# Altium schematic symbol library GPSR_v2.SchLib: 41 symbols
Pins are listed as number, name and electrical type; pins without a type are passive.

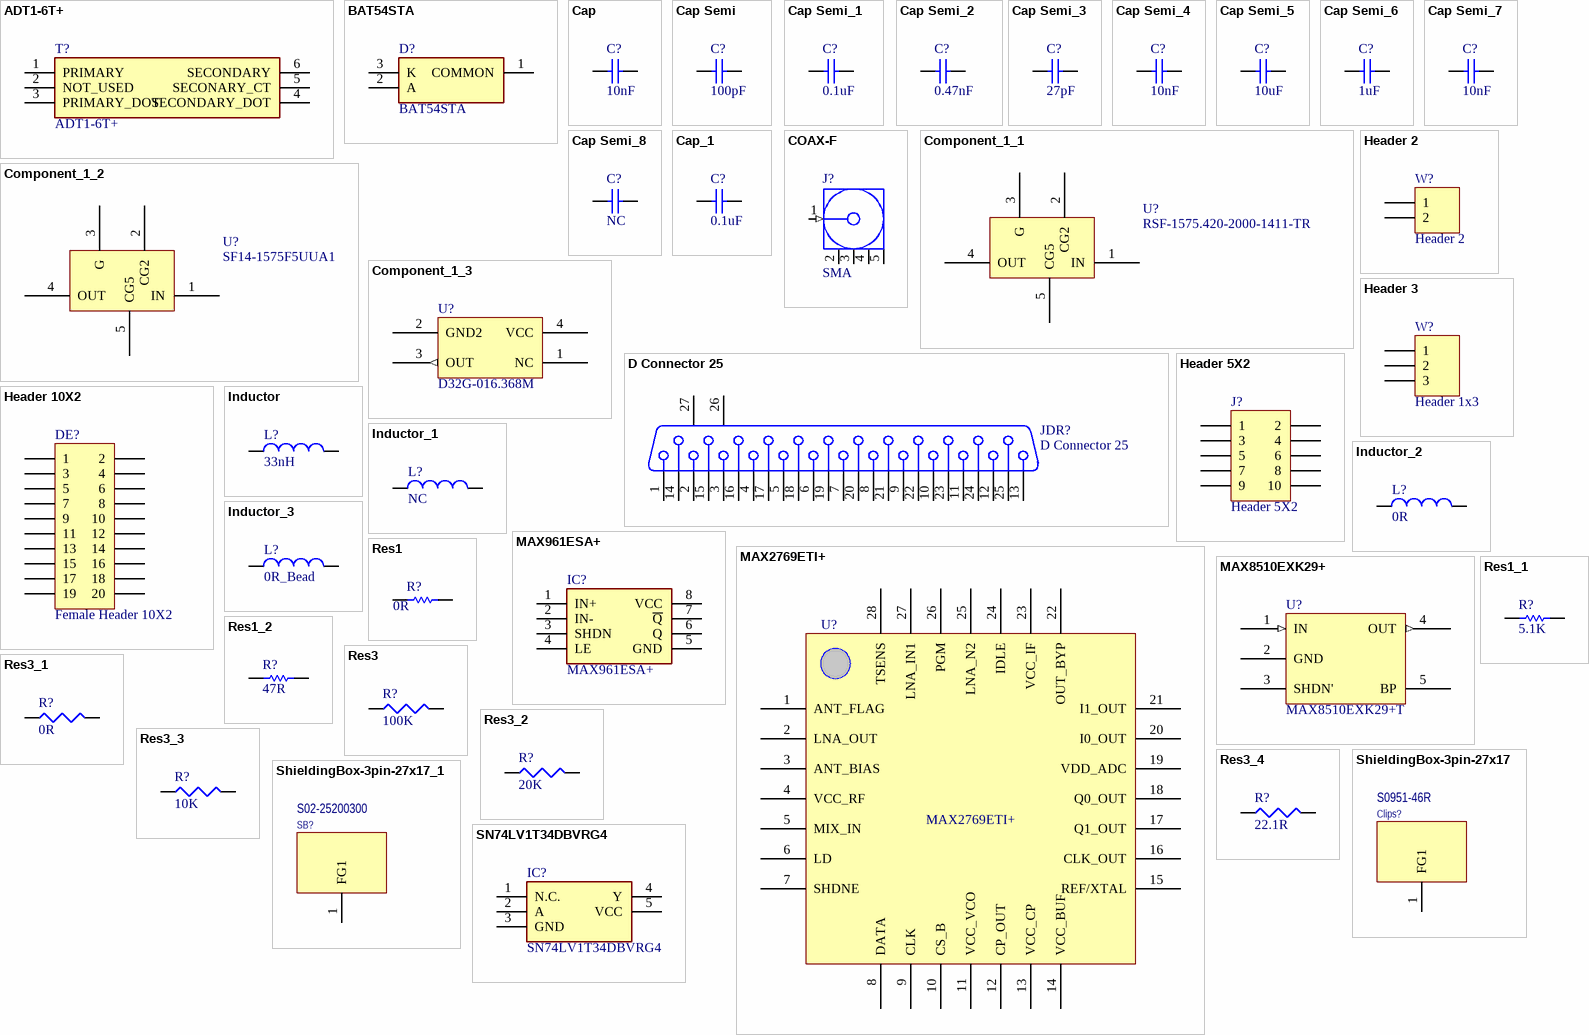
[diagram p0: symbols ADT1-6T+ to SN74LV1T34DBVRG4]

## ADT1-6T+
designator T?
Transformer; Manufacturer_Name: Mini-Circuits; Datasheet Link: https://www.minicircuits.com/WebStore/dashboard.html?model=ADT1-6T%2B; Manufacturer_Part_Number: ADT1-6T+; Mouser Part Number: 139-ADT1-6T; Mouser Price/Stock: https://www.mouser.co.uk/ProductDetail/Mini-Circuits/ADT1-6T%2b?qs=xZ%2FP%252Ba9zWqaFnE78654XUA%3D%3D
footprint ADT16T
pins: 1 PRIMARY, 2 NOT_USED, 3 PRIMARY_DOT, 4 SECONDARY_DOT, 5 SECONARY_CT, 6 SECONDARY

## BAT54STA
designator D?
Schottky Diode; Manufacturer_Name: Diodes Inc.; Datasheet Link: https://www.diodes.com/assets/Datasheets/bat54srs.pdf; Height: 0mm; Manufacturer_Part_Number: BAT54STA; Mouser Part Number: 522-BAT54STA; Mouser Price/Stock: https://www.mouser.co.uk/ProductDetail/Diodes-Incorporated/BAT54STA?qs=CUBnOrq4ZJw2cocvHtDEgQ%3D%3D; Arrow Part Number: BAT54STA; Arrow Price/Stock: https://www.arrow.com/en/products/bat54sta/diodes-incorporated
footprint BAT54STA
pins: 1 COMMON, 2 A, 3 K

## Cap
designator C?, comment 10nF
Capacitor; Published: 8-Jun-2000; LatestRevisionDate: 17-Jul-2002; LatestRevisionNote: Re-released for DXP Platform.; PackageReference: RAD-0.3; Publisher: Altium Limited; PackageDescription: Radial Cap, Thru-Hole; 2 Leads; 0.3 in Pin Spacing; Value: 10nF
simulation model CAP (Capacitor)
signal-integrity model Cap
footprint C1210
pins: 1, 2

## Cap Semi
designator C?, comment 100pF
Capacitor (Semiconductor SIM Model); Value: 100p; Published: 8-Jun-2000; LatestRevisionDate: 29-May-2009; LatestRevisionNote: IPC-7351 Footprint Added.; PackageReference: C1206; Publisher: Altium Limited; PackageDescription: Chip Capacitor
simulation model CAP (Semiconductor Capacitor)
signal-integrity model Cap Semi
footprint C0402
pins: 1, 2

## Cap Semi_1
designator C?, comment 0.1uF
Capacitor (Semiconductor SIM Model); Value: 0.1u; Published: 8-Jun-2000; LatestRevisionDate: 29-May-2009; LatestRevisionNote: IPC-7351 Footprint Added.; PackageReference: C1206; Publisher: Altium Limited; PackageDescription: Chip Capacitor
simulation model CAP (Semiconductor Capacitor)
signal-integrity model Cap Semi
footprint C0402
pins: 1, 2

## Cap Semi_2
designator C?, comment 0.47nF
Capacitor (Semiconductor SIM Model); Value: 0.47n; Published: 8-Jun-2000; LatestRevisionDate: 29-May-2009; LatestRevisionNote: IPC-7351 Footprint Added.; PackageReference: C1206; Publisher: Altium Limited; PackageDescription: Chip Capacitor
simulation model CAP (Semiconductor Capacitor)
signal-integrity model Cap Semi
footprint C0402
pins: 1, 2

## Cap Semi_3
designator C?, comment 27pF
Capacitor (Semiconductor SIM Model); Value: 27p; Published: 8-Jun-2000; LatestRevisionDate: 29-May-2009; LatestRevisionNote: IPC-7351 Footprint Added.; PackageReference: C1206; Publisher: Altium Limited; PackageDescription: Chip Capacitor
simulation model CAP (Semiconductor Capacitor)
signal-integrity model Cap Semi
footprint C0402
pins: 1, 2

## Cap Semi_4
designator C?, comment 10nF
Capacitor (Semiconductor SIM Model); Value: 10n; Published: 8-Jun-2000; LatestRevisionDate: 29-May-2009; LatestRevisionNote: IPC-7351 Footprint Added.; PackageReference: C1206; Publisher: Altium Limited; PackageDescription: Chip Capacitor
simulation model CAP (Semiconductor Capacitor)
signal-integrity model Cap Semi
footprint C0402
pins: 1, 2

## Cap Semi_5
designator C?, comment 10uF
Capacitor (Semiconductor SIM Model); Value: 10u; Published: 8-Jun-2000; LatestRevisionDate: 29-May-2009; LatestRevisionNote: IPC-7351 Footprint Added.; PackageReference: C1206; Publisher: Altium Limited; PackageDescription: Chip Capacitor
simulation model CAP (Semiconductor Capacitor)
signal-integrity model Cap Semi
footprint C0402
pins: 1, 2

## Cap Semi_6
designator C?, comment 1uF
Capacitor (Semiconductor SIM Model); Value: 1u; Published: 8-Jun-2000; LatestRevisionDate: 29-May-2009; LatestRevisionNote: IPC-7351 Footprint Added.; PackageReference: C1206; Publisher: Altium Limited; PackageDescription: Chip Capacitor
simulation model CAP (Semiconductor Capacitor)
signal-integrity model Cap Semi
footprint C0402
pins: 1, 2

## Cap Semi_7
designator C?, comment 10nF
Capacitor (Semiconductor SIM Model); Value: 0.01u; Published: 8-Jun-2000; LatestRevisionDate: 29-May-2009; LatestRevisionNote: IPC-7351 Footprint Added.; PackageReference: C1206; Publisher: Altium Limited; PackageDescription: Chip Capacitor
simulation model CAP (Semiconductor Capacitor)
signal-integrity model Cap Semi
footprint C0402
pins: 1, 2

## Cap Semi_8
designator C?, comment NC
Capacitor (Semiconductor SIM Model); Value: Open; Published: 8-Jun-2000; LatestRevisionDate: 29-May-2009; LatestRevisionNote: IPC-7351 Footprint Added.; PackageReference: C1206; Publisher: Altium Limited; PackageDescription: Chip Capacitor
simulation model CAP (Semiconductor Capacitor)
signal-integrity model Cap Semi
footprint C0402
pins: 1, 2

## Cap_1
designator C?, comment 0.1uF
Capacitor; Published: 8-Jun-2000; LatestRevisionDate: 17-Jul-2002; LatestRevisionNote: Re-released for DXP Platform.; PackageReference: RAD-0.3; Publisher: Altium Limited; PackageDescription: Radial Cap, Thru-Hole; 2 Leads; 0.3 in Pin Spacing; Value: 0.1uF
simulation model CAP (Capacitor)
signal-integrity model Cap
footprint C1210
pins: 1, 2

## COAX-F
designator J?, comment SMA
PCB_Layout: Complies with manufacturer's recommendation.; DrillSize: Corresponds to nominal value.; Published: 15-Jul-2004; LatestRevisionDate: 15-Jul-2004; LatestRevisionNote: Component Replaced.; DatasheetDocument: 30-May-2003; PackageDocument: 04-Jul-1999; PackageReference: 919-119J-51AX; Publisher: Altium Limited; ComponentLink1Description: Manufacturer Link; ComponentLink1URL: http://www.amphenolrf.com/
footprint SMA-JACK
pins: 1 Signal (in) "Signal Pin", 2 GND (power), 3 GND (power), 4 GND (power), 5 GND (power)

## Component_1_1
designator U?, comment RSF-1575.420-2000-1411-TR
footprint SF141575F5UUA1
pins: 1 IN, 2 CG2, 3 G, 4 OUT, 5 CG5

## Component_1_2
designator U?, comment SF14-1575F5UUA1
footprint SF141575F5UUA1
pins: 1 IN, 2 CG2, 3 G, 4 OUT, 5 CG5

## Component_1_3
designator U?, comment D32G-016.368M
footprint OSC3225 (Footprint not found)
pins: 1 NC, 2 GND2, 3 OUT (out), 4 VCC (power)

## D Connector 25
designator JDR?
Receptacle Assembly, 25 Position, Right Angle; PackageDocument: U; Positions: 25; Published: 15-Jun-2001; LatestRevisionDate: 17-Jul-2002; LatestRevisionNote: Re-released for DXP Platform.; DatasheetDocument: 19-Mar-1999; PackageReference: 787202; Publisher: Altium Limited; Orientation: Right Angle; Gender: Receptacle
footprint DSUB1.385-2H25A (Connector; D Subminiature; 25 Position; Right Angle; Pitch 1.385 mm)
signal-integrity model Connector
pins: 1, 2, 3, 4, 5, 6, 7, 8, 9, 10, 11, 12, 13, 14, 15, 16, 17, 18, 19, 20, 21, 22, 23, 24, 25, 26 MH1, 27 MH2

## Header 2
designator W?
Header, 2-Pin; LatestRevisionDate: 17-Jul-2002; LatestRevisionNote: Re-released for DXP Platform.; Publisher: Altium Limited
footprint HDR1X2 (Connector; Header; 2 Position)
signal-integrity model Connector
pins: 1, 2

## Header 3
designator W?, comment Header 1x3
Header, 3-Pin; LatestRevisionDate: 17-Jul-2002; LatestRevisionNote: Re-released for DXP Platform.; Publisher: Altium Limited
footprint HDR1X3 (Connector; Header; 3 Position)
signal-integrity model Connector
pins: 1, 2, 3

## Header 5X2
designator J?
Header, 5-Pin, Dual row; LatestRevisionDate: 17-Jul-2002; LatestRevisionNote: Re-released for DXP Platform.; Publisher: Altium Limited
footprint HDR2X5 (Connector; Header; 5x2 Position)
signal-integrity model Connector
pins: 1, 2, 3, 4, 5, 6, 7, 8, 9, 10

## Header 10X2
designator DE?, comment Female Header 10X2
Female Header, 10-Pin, Dual row; LatestRevisionDate: 17-Jul-2002; LatestRevisionNote: Re-released for DXP Platform.; Publisher: Altium Limited
footprint HDR2X10 (Connector; Header; 10x2 Position)
signal-integrity model Connector
pins: 1, 2, 3, 4, 5, 6, 7, 8, 9, 10, 11, 12, 13, 14, 15, 16, 17, 18, 19, 20

## Inductor
designator L?, comment 33nH
Inductor; Code_IEC: 1005; Published: 8-Jun-2000; LatestRevisionDate: 29-May-2009; LatestRevisionNote: IPC-7351 Footprint Added.; PackageReference: 0402-A; Publisher: Altium Limited; PackageDescription: Chip Inductor; Code_JEITA: 0402; Value: 33nH
footprint 0402-A (Chip Inductor, Body 1.0x0.5mm, IPC High Density)
footprint 2029 (Chip Inductor, Body 2.0x1.2mm, IPC High Density)
footprint 0603 (Chip Inductor, Body 0.6x0.3mm, IPC High Density)
simulation model INDUCTOR (Inductor)
signal-integrity model Inductor
pins: 1, 2

## Inductor_1
designator L?, comment NC
Inductor; Code_IEC: 1005; Value: Open; Published: 8-Jun-2000; LatestRevisionDate: 29-May-2009; LatestRevisionNote: IPC-7351 Footprint Added.; PackageReference: 0402-A; Publisher: Altium Limited; PackageDescription: Chip Inductor; Code_JEITA: 0402
footprint 0402-A (Chip Inductor, Body 1.0x0.5mm, IPC High Density)
simulation model INDUCTOR (Inductor)
signal-integrity model Inductor
pins: 1, 2

## Inductor_2
designator L?, comment 0R
Inductor; Code_IEC: 1005; Published: 8-Jun-2000; LatestRevisionDate: 29-May-2009; LatestRevisionNote: IPC-7351 Footprint Added.; PackageReference: 0402-A; Publisher: Altium Limited; PackageDescription: Chip Inductor; Code_JEITA: 0402; Value: 0R
footprint 0402-A (Chip Inductor, Body 1.0x0.5mm, IPC High Density)
simulation model INDUCTOR (Inductor)
signal-integrity model Inductor
pins: 1, 2

## Inductor_3
designator L?, comment 0R_Bead
Inductor; Code_IEC: 1005; Value: 0R bead; Published: 8-Jun-2000; LatestRevisionDate: 29-May-2009; LatestRevisionNote: IPC-7351 Footprint Added.; PackageReference: 0402-A; Publisher: Altium Limited; PackageDescription: Chip Inductor; Code_JEITA: 0402
footprint 0402-A (Chip Inductor, Body 1.0x0.5mm, IPC High Density)
simulation model INDUCTOR (Inductor)
signal-integrity model Inductor
pins: 1, 2

## MAX961ESA+
designator IC?
Integrated Circuit; Manufacturer_Name: Maxim Integrated; Datasheet Link: http://datasheets.maximintegrated.com/en/ds/MAX961-MAX999.pdf; Height: 1.75mm; Manufacturer_Part_Number: MAX961ESA+; Mouser Part Number: 700-MAX961ESA; Mouser Price/Stock: https://www.mouser.co.uk/ProductDetail/Maxim-Integrated/MAX961ESA%2b?qs=1THa7WoU59FG2p1IWSYQMw%3D%3D
footprint SOIC127P600X175-8N
pins: 1 IN+, 2 IN-, 3 SHDN, 4 LE, 5 GND, 6 Q, 7 ~{Q}, 8 VCC

## MAX2769ETI+
designator U?
GPS IC
footprint TQFN28P$5C$0.5
pins: 1 ANT_FLAG, 2 LNA_OUT, 3 ANT_BIAS, 4 VCC_RF, 5 MIX_IN, 6 LD, 7 SHDNE, 8 DATA, 9 CLK, 10 CS_B, 11 VCC_VCO, 12 CP_OUT, 13 VCC_CP, 14 VCC_BUF, 15 REF/XTAL, 16 CLK_OUT, 17 Q1_OUT, 18 Q0_OUT, 19 VDD_ADC, 20 I0_OUT, 21 I1_OUT, 22 OUT_BYP, 23 VCC_IF, 24 IDLE, 25 LNA_N2, 26 PGM, 27 LNA_IN1, 28 TSENS

## MAX8510EXK29+
designator U?, comment MAX8510EXK29+T
footprint SOT65P210X110-5N
pins: 1 IN (in), 2 GND, 3 SHDN', 4 OUT (out), 5 BP

## Res1
designator R?, comment 0R
Resistor; Published: 8-Jun-2000; LatestRevisionDate: 17-Jul-2002; LatestRevisionNote: Re-released for DXP Platform.; PackageReference: AXIAL-0.3; Publisher: Altium Limited; PackageDescription: Axial Device, Thru-Hole; 2 Leads; 0.3 in Pin Spacing; Value: 0R
footprint AXIAL-0.3 (Axial Device, Thru-Hole; 2 Leads; 0.3 in Pin Spacing)
simulation model RESISTOR (Resistor)
signal-integrity model Res
footprint 6-0805_N (Chip Resistor, Body 2.0x1.2mm, IPC Medium Density)
pins: 1, 2

## Res1_1
designator R?, comment 5.1K
Resistor; Published: 8-Jun-2000; LatestRevisionDate: 17-Jul-2002; LatestRevisionNote: Re-released for DXP Platform.; PackageReference: AXIAL-0.3; Publisher: Altium Limited; PackageDescription: Axial Device, Thru-Hole; 2 Leads; 0.3 in Pin Spacing; Value: 5.1K
footprint AXIAL-0.3 (Axial Device, Thru-Hole; 2 Leads; 0.3 in Pin Spacing)
simulation model RESISTOR (Resistor)
signal-integrity model Res
footprint 6-0805_N (Chip Resistor, Body 2.0x1.2mm, IPC Medium Density)
pins: 1, 2

## Res1_2
designator R?, comment 47R
Resistor; Value: 47Ω; Published: 8-Jun-2000; LatestRevisionDate: 17-Jul-2002; LatestRevisionNote: Re-released for DXP Platform.; PackageReference: AXIAL-0.3; Publisher: Altium Limited; PackageDescription: Axial Device, Thru-Hole; 2 Leads; 0.3 in Pin Spacing
footprint AXIAL-0.3 (Axial Device, Thru-Hole; 2 Leads; 0.3 in Pin Spacing)
simulation model RESISTOR (Resistor)
signal-integrity model Res
footprint 6-0805_N (Chip Resistor, Body 2.0x1.2mm, IPC Medium Density)
pins: 1, 2

## Res3
designator R?, comment 100K
Resistor; Published: 8-Jun-2000; LatestRevisionDate: 29-May-2009; LatestRevisionNote: IPC-7351 Footprint Added.; PackageReference: J1-0603; Publisher: Altium Limited; PackageDescription: Chip Resistor; Value: 100k
simulation model RESISTOR (Resistor)
signal-integrity model Res
footprint R0402 (Footprint not found)
pins: 1, 2

## Res3_1
designator R?, comment 0R
Resistor; Published: 8-Jun-2000; LatestRevisionDate: 29-May-2009; LatestRevisionNote: IPC-7351 Footprint Added.; PackageReference: J1-0603; Publisher: Altium Limited; PackageDescription: Chip Resistor; Value: 0R
footprint 6-0805_N (Chip Resistor, Body 2.0x1.2mm, IPC Medium Density)
footprint 14-1210 (Chip Resistor, Body 3.2x2.5mm, IPC High Density)
footprint 12Z-2010 (Chip Resistor, Body 5.0x2.5mm, IPC High Density)
footprint RESC6332 (Chip Resistor, Body 6.3x3.2mm, IPC High Density)
simulation model RESISTOR (Resistor)
signal-integrity model Res
pins: 1, 2

## Res3_2
designator R?, comment 20K
Resistor; Published: 8-Jun-2000; LatestRevisionDate: 29-May-2009; LatestRevisionNote: IPC-7351 Footprint Added.; PackageReference: J1-0603; Publisher: Altium Limited; PackageDescription: Chip Resistor; Value: 20k
simulation model RESISTOR (Resistor)
signal-integrity model Res
footprint R0402 (Footprint not found)
pins: 1, 2

## Res3_3
designator R?, comment 10K
Resistor; Published: 8-Jun-2000; LatestRevisionDate: 29-May-2009; LatestRevisionNote: IPC-7351 Footprint Added.; PackageReference: J1-0603; Publisher: Altium Limited; PackageDescription: Chip Resistor; Value: 10k
simulation model RESISTOR (Resistor)
signal-integrity model Res
footprint R0402
pins: 1, 2

## Res3_4
designator R?, comment 22.1R
Resistor; Value: 22.1; Published: 8-Jun-2000; LatestRevisionDate: 29-May-2009; LatestRevisionNote: IPC-7351 Footprint Added.; PackageReference: J1-0603; Publisher: Altium Limited; PackageDescription: Chip Resistor
simulation model RESISTOR (Resistor)
signal-integrity model Res
footprint R0402
pins: 1, 2

## ShieldingBox-3pin-27x17
designator Clips?, comment S0951-46R
footprint S0951-46R
pins: 1 FG1

## ShieldingBox-3pin-27x17_1
designator SB?, comment S02-25200300
footprint S02-25200300
pins: 1 FG1

## SN74LV1T34DBVRG4
designator IC?
Integrated Circuit; Manufacturer_Name: Texas Instruments; Datasheet Link: http://www.ti.com/lit/gpn/sn74lv1t34; Height: 1.45mm; Manufacturer_Part_Number: SN74LV1T34DBVRG4; Mouser Part Number: 595-SN74LV1T34DBVRG4; Mouser Price/Stock: https://www.mouser.co.uk/ProductDetail/Texas-Instruments/SN74LV1T34DBVRG4?qs=vdi0iO8H4N10R%252Bt%252BjmxZrg%3D%3D; Arrow Part Number: SN74LV1T34DBVRG4; Arrow Price/Stock: https://www.arrow.com/en/products/sn74lv1t34dbvrg4/texas-instruments?region=nac
footprint SOT95P280X145-5N
pins: 1 N.C., 2 A, 3 GND, 4 Y, 5 VCC

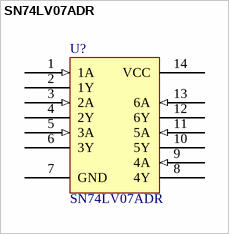
[diagram p1: symbol SN74LV07ADR]

## SN74LV07ADR
designator U?
footprint SOIC127P600X175-14N
pins: 1 1A (in), 2 1Y, 3 2A (in), 4 2Y, 5 3A (in), 6 3Y, 7 GND, 8 4Y, 9 4A (in), 10 5Y, 11 5A (in), 12 6Y, 13 6A (in), 14 VCC (power)